# Altium schematic symbol library 电流测量仪仪主控板原理图7950.SCHLIB: 54 symbols
Pins are listed as number, name and electrical type; pins without a type are passive.

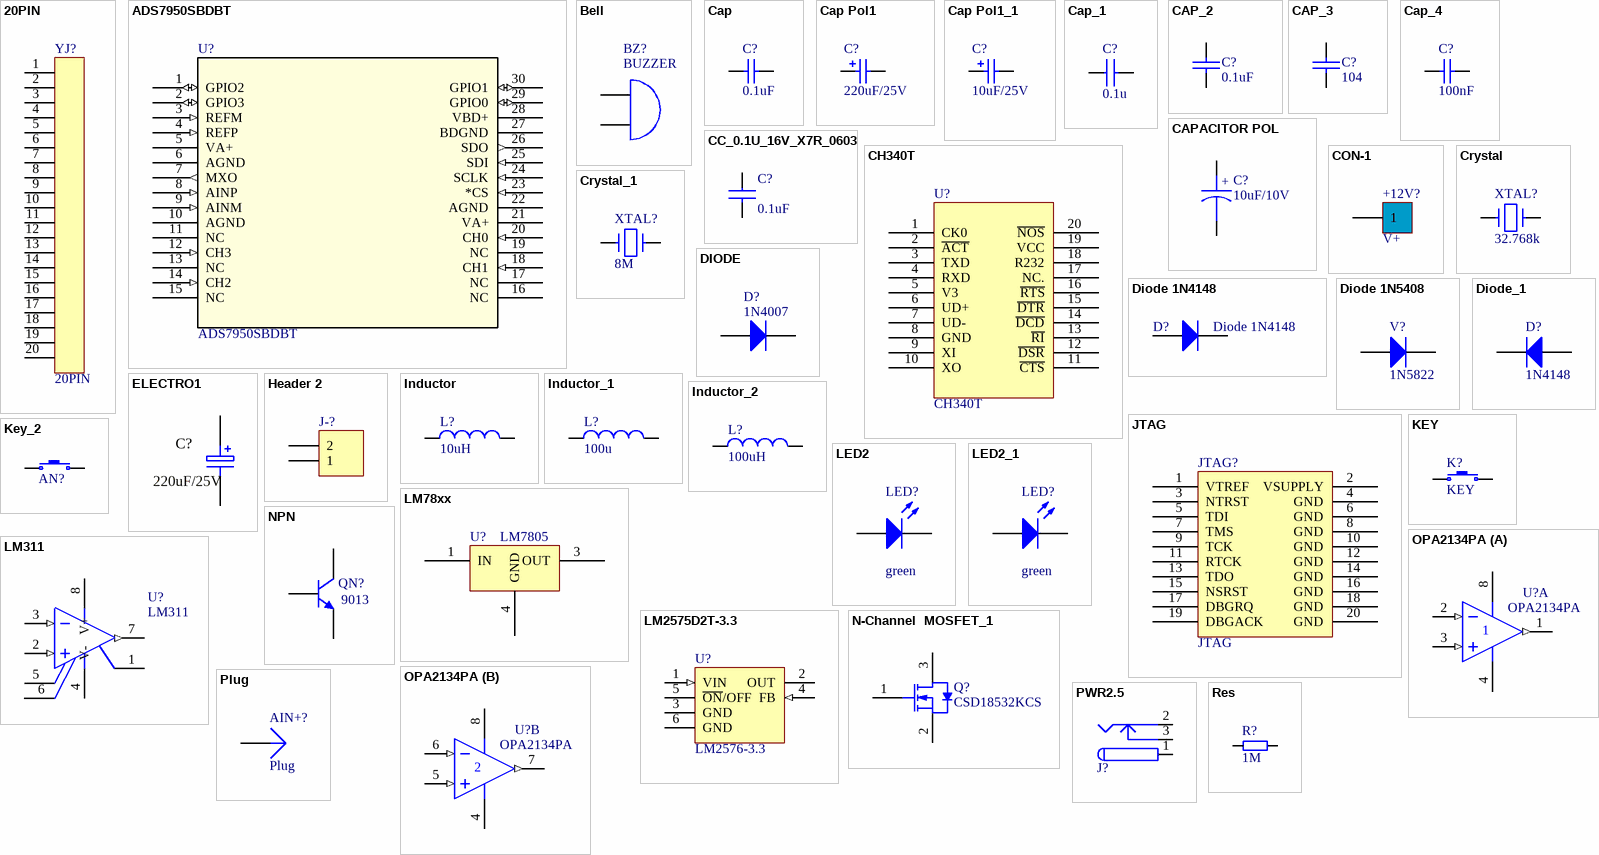
[diagram p0: symbols 20PIN to Res]

## 20PIN
designator YJ?
footprint CM12864-12
footprint LCD12864
pins: 1, 2, 3, 4, 5, 6, 7, 8, 9, 10, 11, 12, 13, 14, 15, 16, 17, 18, 19, 20

## ADS7950SBDBT
designator U?
No Description Available; Vendor: Texas Instruments; Built_By: EMA_UL_Team; SourceLibrary: TI_2011-11-28; Manufacturer_Part_Number: ADS7950SBDBT; Copyright: Copyright (C) 2018 Accelerated Designs. All rights reserved; RefDes: RefDes; Type: DEV
footprint DBT30_TEX
footprint DBT30_TEX-M
pins: 1 GPIO2 (io), 2 GPIO3 (io), 3 REFM (in), 4 REFP (in), 5 VA+, 6 AGND (power), 7 MXO (out), 8 AINP (in), 9 AINM (in), 10 AGND (power), 11 NC, 12 CH3 (in), 13 NC, 14 CH2 (in), 15 NC, 16 NC, 17 NC, 18 CH1 (in), 19 NC, 20 CH0 (in), 21 VA+, 22 AGND (power), 23 *CS (in), 24 SCLK (in), 25 SDI (in), 26 SDO (out), 27 BDGND (power), 28 VBD+ (power), 29 GPIO0 (io), 30 GPIO1 (io)

## Bell
designator BZ?  (value not drawn)
Electrical Bell; Published: 24-Mar-1999; LatestRevisionDate: 17-Jul-2002; LatestRevisionNote: Re-released for DXP Platform.; PackageReference: PIN2; Publisher: Altium Limited
footprint PIN2 (Electrical Bell; 2 Leads)
footprint BUZZER
pins: 1 A, 2 B
text: BUZZER

## Cap
designator C?  value 0.1uF  (hidden comment: Cap)
Capacitor; Published: 8-Jun-2000; LatestRevisionDate: 17-Jul-2002; LatestRevisionNote: Re-released for DXP Platform.; PackageReference: RAD-0.3; Publisher: Altium Limited
footprint RAD-0.3 (Capacitor; 2 Leads)
footprint VP32-3.2 (Capacitor, Ceramic, Thru-Hole, Dipped Radial; Body 5.1 x 3.2 mm (WxT) Pin Spacing 2.54 mm (typ))
footprint VP45-3.2 (Capacitor, Ceramic, Thru-Hole, Dipped Radial; Body 7.8 x 3.2 mm (WxT) Pin Spacing 5.08 mm (typ))
simulation model CAP (Capacitor)
signal-integrity model Cap
footprint 0805C
footprint C0805
pins: 1, 2

## Cap Pol1
designator C?, comment 220uF/25V
Polarized Capacitor (Radial); Published: 8-Jun-2000; LatestRevisionDate: 17-Jul-2002; LatestRevisionNote: Re-released for DXP Platform.; PackageReference: RB7.6-15; Publisher: Altium Limited; Value: 220uF/25V
footprint RB7.6-15 (Polarized Capacitor (Radial); 2 Leads)
footprint HA-C1 (Capacitor, Radial, Tantalum; Body 1.7 x 2.8 mm (Dia.xH max); Pin Spacing 1.27 mm (typ))
footprint A (Capacitor, Electrolytic, Radial; Body 4 x 5 mm (Dia.xH typ); Pin Spacing 1.5 mm (typ))
footprint B (Capacitor, Electrolytic, Radial; Body 5 x 6.8 mm (Dia.xH typ); Pin Spacing 2 mm (typ))
footprint CAPPR5-5x5 (Capacitor, Electrolytic, Radial; Body 5 x 5 mm (Dia.xH typ); Pin Spacing 5 mm (typ))
footprint CAPPR7.5-16x35 (Capacitor, Electrolytic, Radial; Body 16 x 35 mm (Dia.xH typ); Pin Spacing 7.5 mm (typ))
simulation model CAP (Capacitor)
signal-integrity model Cap Pol
footprint CD-220uF-25V
pins: 1, 2
1 alternate drawing of the same symbol

## Cap Pol1_1
designator C?, comment 10uF/25V
Polarized Capacitor (Radial); Published: 8-Jun-2000; LatestRevisionDate: 17-Jul-2002; LatestRevisionNote: Re-released for DXP Platform.; PackageReference: RB7.6-15; Publisher: Altium Limited; PackageDescription: Polarized Capacitor (Radial); 2 Leads
footprint C1210_M (Chip Capacitor, Body 3.2x2.5mm, IPC Low Density)
simulation model CAP (Capacitor)
signal-integrity model Cap Pol
pins: 1, 2
1 alternate drawing of the same symbol

## Cap_1
designator C?, comment 0.1u
footprint 0805C
pins: 1, 2

## CAP_2
designator C?, comment 0.1uF
Capacitor
footprint 0805C
pins: 1, 2

## CAP_3
designator C?, comment 104
Capacitor
footprint 0805C
pins: 1, 2

## Cap_4
designator C?, comment 100nF
Capacitor; Published: 8-Jun-2000; LatestRevisionDate: 17-Jul-2002; LatestRevisionNote: Re-released for DXP Platform.; PackageReference: RAD-0.3; Publisher: Altium Limited; PackageDescription: Radial Cap, Thru-Hole; 2 Leads; 0.3 in Pin Spacing
footprint C 0805_M (无极性贴片电容)
pins: 1, 2

## CAPACITOR POL
designator C?, comment 10uF/10V
Capacitor
footprint CT1206
footprint 3825C
footprint 3528C
footprint A3216 (1u/25V)
pins: 1, 2
2 alternate drawings of the same symbol
text: +

## CC_0.1U_16V_X7R_0603
designator C?, comment 0.1uF
Text Field1: 20; Text Field2: 10
footprint 0603
footprint C0603
footprint 0603c
footprint 0805
footprint C0805
footprint 0805C
pins: 1, 2
2 alternate drawings of the same symbol

## CH340T
designator U?
footprint SOP65P780X200-20N (SOP, 20-Leads, Body 7.5x5.6mm (max), Pitch 0.65mm, IPC Medium Density)
footprint SOP-20N (SOP, 20-Leads, Body 7.5x5.6mm (max), Pitch 0.65mm, IPC Medium Density)
pins: 1 CK0, 2 ~{ACT}, 3 TXD, 4 RXD, 5 V3, 6 UD+, 7 UD-, 8 GND, 9 XI, 10 XO, 11 ~{CTS}, 12 ~{DSR}, 13 ~{RI}, 14 ~{DCD}, 15 ~{DTR}, 16 ~{RTS}, 17 NC., 18 R232, 19 VCC, 20 ~{NOS}

## CON-1
designator +12V?, comment V+
footprint 二号金属接线柱
pins: 1

## Crystal
designator XTAL?, comment 32.768k
footprint XTAL-2
footprint XTAL-B (32768Hz)
pins: 1, 2

## Crystal_1
designator XTAL?, comment 8M
footprint XTAL-1
footprint XTAL-A
pins: 1, 2

## DIODE
designator D?, comment 1N4007
footprint D1206 (IN4007(M7),IN5822(SS34))
footprint SMA
pins: 1 A, 2 K

## Diode 1N4148
designator D?
High Conductance Fast Diode; Published: 8-Jun-2000; LatestRevisionDate: 17-Jul-2002; LatestRevisionNote: Re-released for DXP Platform.; DatasheetVersion: 1997; PackageReference: DO-35; Publisher: Altium Limited; PackageDescription: Diode, Axial; Body 3.8 x 1.9 mm (LxDia. max), Lead Dia. 0.53 mm (max); Code_JEDEC: DO-204-AH; ComponentLink1Description: Manufacturer Link; ComponentLink1URL: http://www.fairchildsemi.com/; ComponentLink2Description: Datasheet; ComponentLink2URL: http://www.fairchildsemi.com/ds/1N%2F1N4148.pdf
footprint SMA (Molded Diode, 2-Leads, Body 4.3x2.7mm, IPC Medium Density)
pins: 1 A, 2 K

## Diode 1N5408
designator V?, comment 1N5822
3 Amp Medium Power Silicon Rectifier Diode; Published: 8-Jun-2000; LatestRevisionDate: 17-Jul-2002; LatestRevisionNote: Re-released for DXP Platform.; DatasheetDocument: Aug-1984; PackageReference: DO-201AD; Publisher: Altium Limited; ComponentLink1Description: Manufacturer Link; ComponentLink1URL: http://www.irf.com/
footprint DO-201AD (Diode, Axial; Body 9.5 x 5.3 mm (LxDia. max), Lead Dia. 1.32 mm (max))
simulation model 1N5408 (DIODE)
signal-integrity model 1N5408
footprint SMC
footprint SMA (Molded Diode, 2-Leads, Body 4.3x2.7mm, IPC Medium Density)
footprint SOD-323-1N4148 (SOT23127P600-8N)
footprint SMA (Molded Diode, 2-Leads, Body 4.3x2.7mm, IPC Medium Density)
pins: 1 A, 2 K

## Diode_1
designator D?, comment 1N4148
footprint D1206
footprint SMA (Molded Diode, 2-Leads, Body 4.3x2.7mm, IPC Medium Density)
pins: 1 A, 2 K

## ELECTRO1
designator C?, comment 220uF/25V
Electrolytic Capacitor
footprint CD-220UF-25V
footprint CD-220UF-25V - duplicate (CD11)
footprint CD-220UF-25V (CD11)
pins: 1, 2

## Header 2
designator J-?, comment Comment  (value not drawn)
Header, 2-Pin; LatestRevisionDate: 17-Jul-2002; LatestRevisionNote: Re-released for DXP Platform.; Publisher: Altium Limited
footprint HDR1X2 (Connector; Header; 2 Position)
signal-integrity model Connector
footprint P485
pins: 1, 2

## Inductor
designator L?  value 10uH  (hidden comment: Inductor)
Code_IEC: 1005; Published: 8-Jun-2000; LatestRevisionDate: 17-Jul-2002; LatestRevisionNote: Re-released for DXP Platform.; PackageReference: 0402-A; Publisher: Altium Limited; Code_JEITA: 0402
footprint 0402-A (Chip Inductor; Body 1 x 0.5 mm (LxW typ))
footprint L0603 (Chip Inductor; Body 1.6 x 0.8 mm (LxW typ))
footprint 2012_Chip (2012 Chip; Chip Inductor; Body 2.0 x 1.2 mm (LxW typ))
footprint 2029 (Chip Inductor; Body 2 x 1.2 mm (LxW typ))
footprint 3261 (3216 Chip; Chip Inductor; Body 3.2 x 1.6 mm (LxW typ))
footprint 4564_Chip (4564 Chip; Chip Inductor; Body 4.5 x 6.4 mm (LxW typ))
simulation model INDUCTOR (Inductor)
signal-integrity model Inductor
footprint 1206L
pins: 1, 2

## Inductor_1
designator L?, comment 100u
footprint 0805R (电阻，1uH电感)
pins: 1, 2

## Inductor_2
designator L?, comment value 100uH  (hidden comment: Inductor)
Code_IEC: 1005; Published: 8-Jun-2000; LatestRevisionDate: 17-Jul-2002; LatestRevisionNote: Re-released for DXP Platform.; PackageReference: 0402-A; Publisher: Altium Limited; Code_JEITA: 0402
footprint 0402-A (Chip Inductor; Body 1 x 0.5 mm (LxW typ))
footprint L0603 (Chip Inductor; Body 1.6 x 0.8 mm (LxW typ))
footprint 2012_Chip (2012 Chip; Chip Inductor; Body 2.0 x 1.2 mm (LxW typ))
footprint 2029 (Chip Inductor; Body 2 x 1.2 mm (LxW typ))
footprint 3261 (3216 Chip; Chip Inductor; Body 3.2 x 1.6 mm (LxW typ))
footprint 4564_Chip (4564 Chip; Chip Inductor; Body 4.5 x 6.4 mm (LxW typ))
simulation model INDUCTOR (Inductor)
signal-integrity model Inductor
footprint 1206L
footprint 12*12贴片电感
pins: 1, 2

## JTAG
designator JTAG?
footprint IDC20 (2.54mm*20)
pins: 1 VTREF, 2 VSUPPLY, 3 NTRST, 4 GND, 5 TDI, 6 GND, 7 TMS, 8 GND, 9 TCK, 10 GND, 11 RTCK, 12 GND, 13 TDO, 14 GND, 15 NSRST, 16 GND, 17 DBGRQ, 18 GND, 19 DBGACK, 20 GND

## KEY
designator K?
footprint AN6X6
pins: 1, 2

## Key_2
designator AN?, comment key  (value not drawn)
footprint KEY 6*6
footprint KEY_6*6
footprint AN6X6
pins: 1, 2
2 alternate drawings of the same symbol

## LED2
designator LED?
Typical RED, GREEN, YELLOW, AMBER GaAs LED; Published: 8-Jun-2000; LatestRevisionDate: 17-Jul-2002; LatestRevisionNote: Re-released for DXP Platform.; PackageDocument: Feb-2002; PackageReference: 3.2X1.6X1.1; Publisher: Altium Limited
footprint 0805LED
simulation model LED2 (Diode)
footprint 0805D
footprint 0805LED (Chip Led, 2-Leads, Body 2.0x1.3mm, IPC Medium Density)
pins: 1 A, 2 K
text: green

## LED2_1
designator LED?
Typical RED, GREEN, YELLOW, AMBER GaAs LED; Published: 8-Jun-2000; LatestRevisionDate: 17-Jul-2002; LatestRevisionNote: Re-released for DXP Platform.; PackageDocument: Feb-2002; PackageReference: 3.2X1.6X1.1; Publisher: Altium Limited
footprint 0805LED
simulation model LED2 (Diode)
footprint 0805C
footprint 0805D
footprint 0805LED (Chip Led, 2-Leads, Body 2.0x1.3mm, IPC Medium Density)
pins: 1 A, 2 K
text: green

## LM78xx
designator U?, comment LM7805
footprint TO-263-LM78xx (TO228P970-3N)
pins: 1 IN, 3 OUT, 4 GND

## LM311
designator U?
footprint SOIC-8 (LF353,LM358)
pins: 1 EMIT OUT, 2 IN+ (in), 3 IN- (in), 4 V- (power), 5 OS NUL, 6 TAB, 7 OUT (out), 8 V+ (power)

## LM2575D2T-3.3
designator U?, comment LM2576-3.3
Easy Switcher 1.0A Step-Down Voltage Regulator; Note: Pin 3 is electrically connected to Pin 6;Pin 6 is heatsink; Published: 15-Apr-2002; DatasheetVersion: Jul-1999; PackageVersion: Jul-1999; PackageReference: 936A-02; Publisher: Altium Limited; PackageDescription: D2-PAK; 5 Leads; Body 14.7 (inc. leads) x 10.2 mm (LxW max); ComponentLink1Description: Manufacturer Link; ComponentLink1URL: http://www.onsemi.com/site/products/taxonomy/0,4438,503,00.html; ComponentLink2Description: Datasheet; ComponentLink2URL: http://www.onsemi.com/pub/Collateral/LM2575-D.PDF
footprint 936A-02 (D2-PAK; 5 Leads; Body 14.7 (inc. leads) x 10.2 mm (LxW max))
footprint TO-263S-5Lead
pins: 1 VIN (in), 2 OUT (oe), 3 GND (power), 4 FB (in), 5 ~{ON}/OFF, 6 GND (power)

## N-Channel  MOSFET_1
designator Q?, comment CSD18532KCS
N-Channel Power MOSFET; Note: Pin 4 not drawn and electrically connected to Pin 2.; Published: 8-Jun-2000; LatestRevisionDate: 17-Jul-2002; LatestRevisionNote: Re-released for DXP Platform.; DatasheetVersion: PD-9.390D; PackageVersion: Feb-1997; PackageReference: TO-220AB; Publisher: Altium Limited; PackageDescription: TO, Thru-Hole, Vertical, Heatsink Mounted; 3 In-Line Leads; Pitch 2.54 mm; ComponentLink1Description: Manufacturer Link; ComponentLink1URL: http://www.irf.com/
footprint TO-220AB (TO, Thru-Hole, Vertical, Heatsink Mounted; 3 In-Line Leads; Pitch 2.54 mm)
simulation model IRF9510 (Spice Subcircuit)
pins: 1 G, 2 S, 3 D

## NPN
designator QN?  (value not drawn)
NPN Bipolar Transistor; Published: 8-Jun-2000; LatestRevisionDate: 17-Jul-2002; LatestRevisionNote: Re-released for DXP Platform.; PackageReference: TO-226; Publisher: Altium Limited; Code_JEDEC: TO-226-AA
footprint TO-226 (TO, Flat Index; 3 In-Line, Axial Leads; Body Dia. 4.8mm; Leads 0.55 x 0.51 mm (max))
simulation model NPN
signal-integrity model NPN
footprint SOT23-3
footprint QNPN-SOT23 (9013, EBC)
pins: 1 B, 2 E, 3 C
text: 9013

## OPA2134PA
designator U?
Dual Operational Amplifier; Published: 15-Apr-2002; LatestRevisionDate: 04-Mar-2005; LatestRevisionNote: Stylized 3D Model Added.; DatasheetVersion: Aug-1988; PackageVersion: Jun-1999; PackageReference: P008; Publisher: Altium Limited; PackageDescription: DIP; 8 Leads; Row Spacing 7.62 mm; Pitch 2.54 mm; Code_JEDEC: MO-001-AN; ComponentLink1Description: Manufacturer Link; ComponentLink1URL: http://www.ti.com/; ComponentLink2Description: Datasheet; ComponentLink2URL: http://www-s.ti.com/sc/ds/lm258.pdf
footprint SOIC-8 (LF353,LM358)
pins on every part: 4 V- (power), 8 V+ (power)
part A pins: 1 OUT (out), 2 IN- (in), 3 IN+ (in)
part B pins: 5 IN+ (in), 6 IN- (in), 7 OUT (out)

## Plug
designator AIN+?
LatestRevisionDate: 17-Jul-2002; LatestRevisionNote: Re-released for DXP Platform.; Publisher: Altium Limited
footprint PLUG_Port
signal-integrity model Connector
pins: 1

## PWR2.5
designator J?
Low Voltage Power Supply Connector; Published: 17-Dec-2003; DatasheetDocument: 09-May-2002; Publisher: Altium Limited; ComponentLink1Description: Manufacturer Link; ComponentLink1URL: http://domino.kycon.com/internet/Products.html
footprint DC-JACK
pins: 1 (power), 2 (power), 3 (power)
2 alternate drawings of the same symbol

## Res
designator R?, comment 1M
footprint 0805R
pins: 1, 2

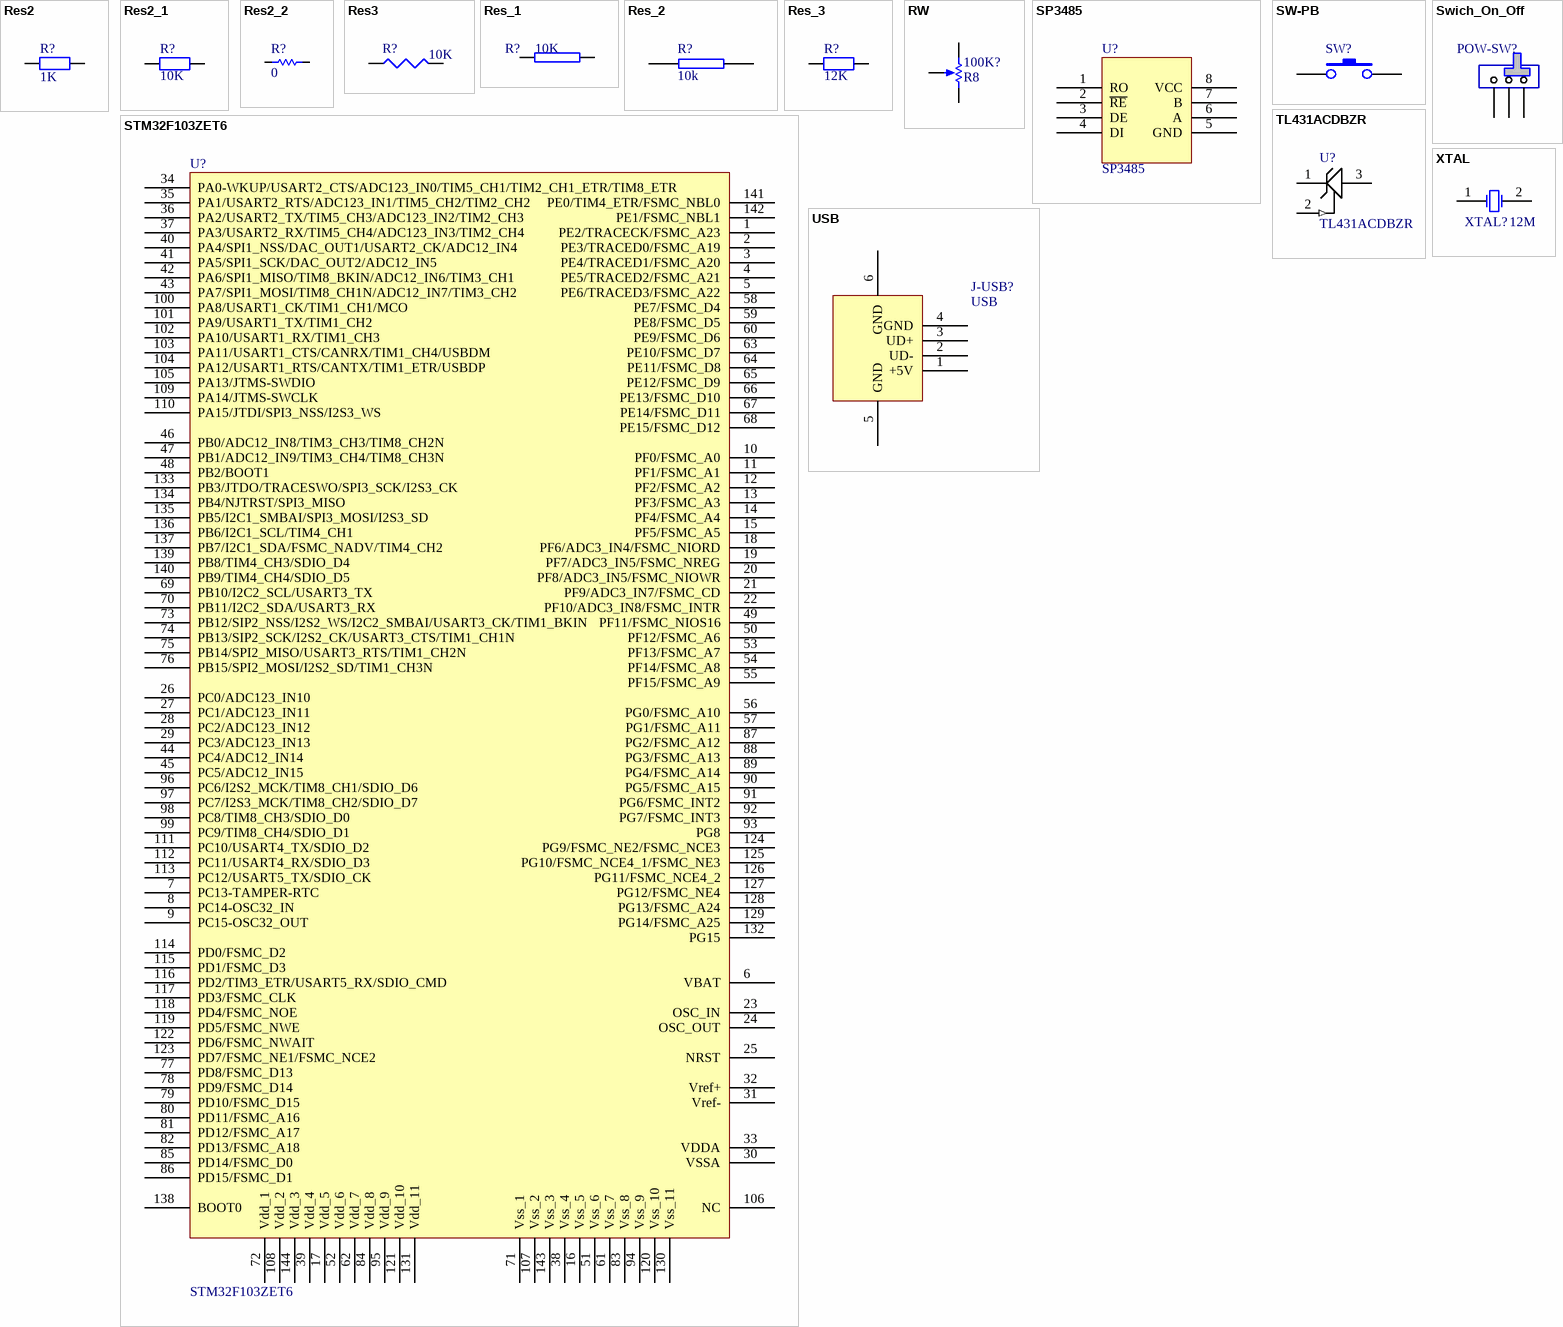
[diagram p1: symbols Res2 to XTAL]

## Res2
designator R?  value 1K  (hidden comment: Res2)
Resistor; Published: 8-Jun-2000; LatestRevisionDate: 17-Jul-2002; LatestRevisionNote: Re-released for DXP Platform.; PackageReference: AXIAL-0.4; Publisher: Altium Limited
footprint AXIAL-0.4 (Resistor; 2 Leads)
simulation model RESISTOR (Resistor)
signal-integrity model Res
footprint 0805R
pins: 1, 2

## Res2_1
designator R?, comment 10K
Resistor; Published: 8-Jun-2000; LatestRevisionDate: 17-Jul-2002; LatestRevisionNote: Re-released for DXP Platform.; Publisher: Altium Limited
footprint 0805R
footprint 0603
footprint 0603R
pins: 1, 2
2 alternate drawings of the same symbol

## Res2_2
designator R?, comment 0
footprint 0805R
pins: 1, 2

## Res3
designator R?, comment 10K
Resistor; Published: 8-Jun-2000; LatestRevisionDate: 29-May-2009; LatestRevisionNote: IPC-7351 Footprint Added.; PackageReference: J1-0603; Publisher: Altium Limited; PackageDescription: Chip Resistor; Value: 10K
footprint R 0805_M (1/8W贴片电阻)
footprint 14-1210 (Chip Resistor, Body 3.2x2.5mm, IPC High Density)
footprint 12Z-2010 (Chip Resistor, Body 5.0x2.5mm, IPC High Density)
footprint RESC6332 (Chip Resistor, Body 6.3x3.2mm, IPC High Density)
pins: 1, 2

## Res_1
designator R?, comment 10K
footprint 0805R
pins: 1, 2

## Res_2
designator R?, comment 10k
footprint 0805R
pins: 1, 2

## Res_3
designator R?, comment value 12K  (hidden comment: Res2)
Resistor; Published: 8-Jun-2000; LatestRevisionDate: 17-Jul-2002; LatestRevisionNote: Re-released for DXP Platform.; PackageReference: AXIAL-0.4; Publisher: Altium Limited
footprint 0805R
simulation model RESISTOR (Resistor)
signal-integrity model Res
pins: 1, 2

## RW
designator 100K?, comment R8
footprint 3296W (Precise Multi-Winding Adjustable Resistor)
pins: 1 TOP, 2 TAP, 3 BOT

## SP3485
designator U?
footprint SOIC127P600X175-8N (SOIC, 8-Leads, Body 5.0x4.0mm (max), Pitch 1.27mm, IPC Medium Density)
footprint SOIC-8 (LF353,LM358)
pins: 1 RO, 2 ~{RE}, 3 DE, 4 DI, 5 GND, 6 A, 7 B, 8 VCC

## STM32F103ZET6
designator U?
footprint LQFP100_N (100-Pin Shrink Quad Flat Pack 0.5 mm Pitch, IPC Medium Density)
footprint TSQFP-144N (TSQFP, 144-Leads, Body 22.2x22.2mm (max), Pitch 0.50mm, IPC Medium Density)
pins: 1 PE2/TRACECK/FSMC_A23, 2 PE3/TRACED0/FSMC_A19, 3 PE4/TRACED1/FSMC_A20, 4 PE5/TRACED2/FSMC_A21, 5 PE6/TRACED3/FSMC_A22, 6 VBAT, 7 PC13-TAMPER-RTC, 8 PC14-OSC32_IN, 9 PC15-OSC32_OUT, 10 PF0/FSMC_A0, 11 PF1/FSMC_A1, 12 PF2/FSMC_A2, 13 PF3/FSMC_A3, 14 PF4/FSMC_A4, 15 PF5/FSMC_A5, 16 Vss_5, 17 Vdd_5, 18 PF6/ADC3_IN4/FSMC_NIORD, 19 PF7/ADC3_IN5/FSMC_NREG, 20 PF8/ADC3_IN5/FSMC_NIOWR, 21 PF9/ADC3_IN7/FSMC_CD, 22 PF10/ADC3_IN8/FSMC_INTR, 23 OSC_IN, 24 OSC_OUT, 25 NRST, 26 PC0/ADC123_IN10, 27 PC1/ADC123_IN11, 28 PC2/ADC123_IN12, 29 PC3/ADC123_IN13, 30 VSSA, 31 Vref-, 32 Vref+, 33 VDDA, 34 PA0-WKUP/USART2_CTS/ADC123_IN0/TIM5_CH1/TIM2_CH1_ETR/TIM8_ETR, 35 PA1/USART2_RTS/ADC123_IN1/TIM5_CH2/TIM2_CH2, 36 PA2/USART2_TX/TIM5_CH3/ADC123_IN2/TIM2_CH3, 37 PA3/USART2_RX/TIM5_CH4/ADC123_IN3/TIM2_CH4, 38 Vss_4, 39 Vdd_4, 40 PA4/SPI1_NSS/DAC_OUT1/USART2_CK/ADC12_IN4, 41 PA5/SPI1_SCK/DAC_OUT2/ADC12_IN5, 42 PA6/SPI1_MISO/TIM8_BKIN/ADC12_IN6/TIM3_CH1, 43 PA7/SPI1_MOSI/TIM8_CH1N/ADC12_IN7/TIM3_CH2, 44 PC4/ADC12_IN14, 45 PC5/ADC12_IN15, 46 PB0/ADC12_IN8/TIM3_CH3/TIM8_CH2N, 47 PB1/ADC12_IN9/TIM3_CH4/TIM8_CH3N, 48 PB2/BOOT1, 49 PF11/FSMC_NIOS16, 50 PF12/FSMC_A6, 51 Vss_6, 52 Vdd_6, 53 PF13/FSMC_A7, 54 PF14/FSMC_A8, 55 PF15/FSMC_A9, 56 PG0/FSMC_A10, 57 PG1/FSMC_A11, 58 PE7/FSMC_D4, 59 PE8/FSMC_D5, 60 PE9/FSMC_D6, 61 Vss_7, 62 Vdd_7, 63 PE10/FSMC_D7, 64 PE11/FSMC_D8, 65 PE12/FSMC_D9, 66 PE13/FSMC_D10, 67 PE14/FSMC_D11, 68 PE15/FSMC_D12, 69 PB10/I2C2_SCL/USART3_TX, 70 PB11/I2C2_SDA/USART3_RX, 71 Vss_1, 72 Vdd_1, 73 PB12/SIP2_NSS/I2S2_WS/I2C2_SMBAI/USART3_CK/TIM1_BKIN, 74 PB13/SIP2_SCK/I2S2_CK/USART3_CTS/TIM1_CH1N, 75 PB14/SPI2_MISO/USART3_RTS/TIM1_CH2N, 76 PB15/SPI2_MOSI/I2S2_SD/TIM1_CH3N, 77 PD8/FSMC_D13, 78 PD9/FSMC_D14, 79 PD10/FSMC_D15, 80 PD11/FSMC_A16, 81 PD12/FSMC_A17, 82 PD13/FSMC_A18, 83 Vss_8, 84 Vdd_8, 85 PD14/FSMC_D0, 86 PD15/FSMC_D1, 87 PG2/FSMC_A12, 88 PG3/FSMC_A13, 89 PG4/FSMC_A14, 90 PG5/FSMC_A15, 91 PG6/FSMC_INT2, 92 PG7/FSMC_INT3, 93 PG8, 94 Vss_9, 95 Vdd_9, 96 PC6/I2S2_MCK/TIM8_CH1/SDIO_D6, 97 PC7/I2S3_MCK/TIM8_CH2/SDIO_D7, 98 PC8/TIM8_CH3/SDIO_D0, 99 PC9/TIM8_CH4/SDIO_D1, 100 PA8/USART1_CK/TIM1_CH1/MCO, 101 PA9/USART1_TX/TIM1_CH2, 102 PA10/USART1_RX/TIM1_CH3, 103 PA11/USART1_CTS/CANRX/TIM1_CH4/USBDM, 104 PA12/USART1_RTS/CANTX/TIM1_ETR/USBDP, 105 PA13/JTMS-SWDIO, 106 NC, 107 Vss_2, 108 Vdd_2, 109 PA14/JTMS-SWCLK, 110 PA15/JTDI/SPI3_NSS/I2S3_WS, 111 PC10/USART4_TX/SDIO_D2, 112 PC11/USART4_RX/SDIO_D3, 113 PC12/USART5_TX/SDIO_CK, 114 PD0/FSMC_D2, 115 PD1/FSMC_D3, 116 PD2/TIM3_ETR/USART5_RX/SDIO_CMD, 117 PD3/FSMC_CLK, 118 PD4/FSMC_NOE, 119 PD5/FSMC_NWE, 120 Vss_10, 121 Vdd_10, 122 PD6/FSMC_NWAIT, 123 PD7/FSMC_NE1/FSMC_NCE2, 124 PG9/FSMC_NE2/FSMC_NCE3, 125 PG10/FSMC_NCE4_1/FSMC_NE3, 126 PG11/FSMC_NCE4_2, 127 PG12/FSMC_NE4, 128 PG13/FSMC_A24, 129 PG14/FSMC_A25, 130 Vss_11, 131 Vdd_11, 132 PG15, 133 PB3/JTDO/TRACESWO/SPI3_SCK/I2S3_CK, 134 PB4/NJTRST/SPI3_MISO, 135 PB5/I2C1_SMBAI/SPI3_MOSI/I2S3_SD, 136 PB6/I2C1_SCL/TIM4_CH1, 137 PB7/I2C1_SDA/FSMC_NADV/TIM4_CH2, 138 BOOT0, 139 PB8/TIM4_CH3/SDIO_D4, 140 PB9/TIM4_CH4/SDIO_D5, 141 PE0/TIM4_ETR/FSMC_NBL0, 142 PE1/FSMC_NBL1, 143 Vss_3, 144 Vdd_3

## SW-PB
designator SW?
footprint 按键
footprint 按键_6*6MM_贴
footprint AN6X6
pins: 1, 2

## Swich_On_Off
designator POW-SW?, comment Switch  (value not drawn)
footprint SW
footprint 五脚滑动开关
footprint SW
pins: 1, 2, 3
2 alternate drawings of the same symbol

## TL431ACDBZR
designator U?
No Description Available; PartNumber: TL431AIDBZ; Manufacturer: Texas Instruments; CompType: IC; PIN_COUNT: 3; PackageReference: DBZ0003A; MountType: SMT; RoHS: Y; RefDes: RefDes; Type: DEV; Value: Value; Copyright: Copyright (C) 2018 Accelerated Designs. All rights reserved
footprint DBZ0003A_N
footprint DBZ0003A_M
pins: 1 CATHODE, 2 REF (in), 3 ANODE

## USB
designator J-USB?
footprint USB
footprint USB_Device
pins: 1 +5V, 2 UD-, 3 UD+, 4 GND, 5 GND, 6 GND

## XTAL
designator XTAL?  (value not drawn)
Crystal Oscillator; Published: 8-Jun-2000; LatestRevisionDate: 17-Jul-2002; LatestRevisionNote: Re-released for DXP Platform.; PackageReference: R38; Publisher: Altium Limited
footprint R38 (Crystal, Thru-Hole; 2 Leads; Body 3.1 x 8.2 mm (Dia.xH))
simulation model XTAL (Spice Subcircuit)
footprint XTAL-A
pins: 1 OSC1, 2 OSC2
text: 12M